# Altium schematic symbol library Switches.SchLib: 4 symbols
Pins are listed as number, name and electrical type; pins without a type are passive.

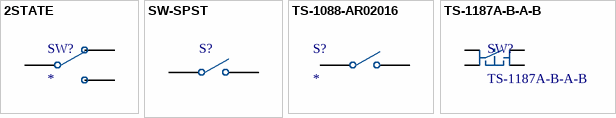
[diagram p0: symbols 2STATE to TS-1187A-B-A-B]

## 2STATE
designator SW?
footprint 2STATE_DIP_2MM
pins: 1 NO, 2 COMMON, 3 NO

## SW-SPST
designator S?
Single-Pole, Single-Throw Switch; Published: 24-Mar-1999; LatestRevisionDate: 17-Jul-2002; LatestRevisionNote: Re-released for DXP Platform.; PackageReference: SPST-2; Publisher: Altium Limited; PackageDescription: Switch; 2 Leads
footprint SPST-2 (Switch; 2 Leads)
footprint HDR1X2 (Connector; Header; 2 Position)
pins: 1 COMMON, 2 NO

## TS-1088-AR02016
designator S?
Switch; Manufacturer_Name: XUNPU; Manufacturer_Part_Number: TS-1088-AR02016; Datasheet Link: https://www.xunpudianzi.com/uploads/pdf/TS-1088-ARXXX.pdf; Height: 2mm
footprint TS1088AR02016 (Footprint not found)
footprint SW-SMD_L3.9-W3.0-P4.45
pins: 1 COMMON, 2 NO

## TS-1187A-B-A-B
designator SW?
Type: TS-1187A-B-A-B
footprint TS-1187A-B-A-B
pins: A, B, C, D